# Altium schematic symbol library TI ADS1241.SchLib: 1 symbol
Pins are listed as number, name and electrical type; pins without a type are passive.

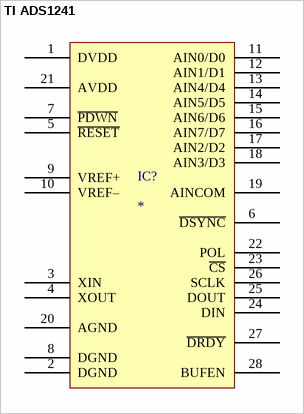
[diagram p0: symbol TI ADS1241]

## TI ADS1241
designator IC?
pins: 1 DVDD, 2 DGND, 3 XIN, 4 XOUT, 5 ~{RESET}, 6 ~{DSYNC}, 7 ~{PDWN}, 8 DGND, 9 VREF+, 10 VREF–, 11 AIN0/D0, 12 AIN1/D1, 13 AIN4/D4, 14 AIN5/D5, 15 AIN6/D6, 16 AIN7/D7, 17 AIN2/D2, 18 AIN3/D3, 19 AINCOM, 20 AGND, 21 AVDD, 22 POL, 23 ~{CS}, 24 DIN, 25 DOUT, 26 SCLK, 27 ~{DRDY}, 28 BUFEN